# Altium footprint library adafruit.PCBLIB: 624 footprints (part 29 of 39)
Each footprint in its own frame and in the unit in brackets; x right, y up, seen from the top. Pads: shape width x height; smd on the part's side, far side on the other; paste and mask are expansions set on the pad; w line width, h text height; cw(c..) or ccw(c..) is an arc to the next point about the centre after c.
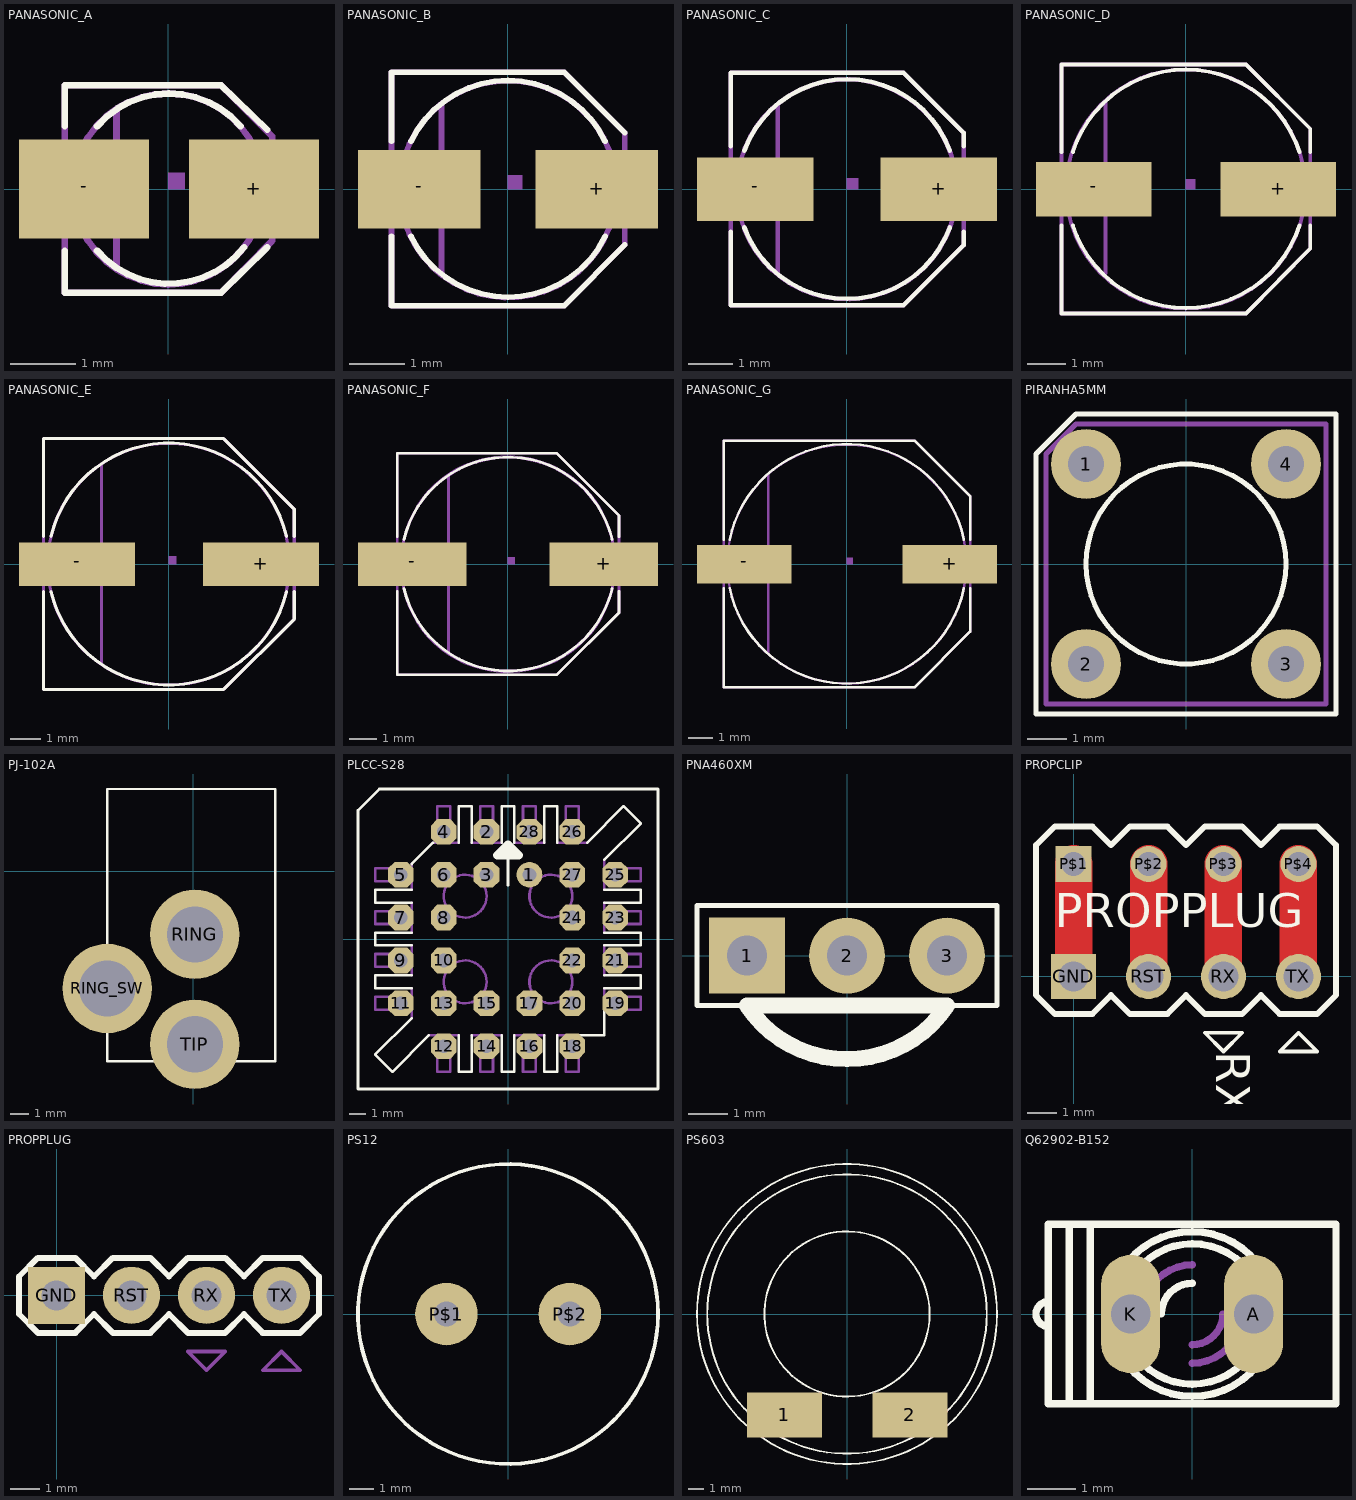
[diagram p28: the footprints below, top view; thin cyan lines are the x and y axes]

## PANASONIC_A [mil]
pads (2):
  rect 79x60 smd: +(52,0) -(-51.18,0)
Top Overlay:
  lines w4: -62.99,-37.4 -62.99,-62.99 32,-62.99 60,-35.43 ; -62.99,38 -62.99,63 32,63 60,36 ; -43.31,-37.4 ccw(c0.54,0.3) 46,-35.43 ; -43.31,38 cw(c0.35,0.3) 44,38
Mechanical 16:
  circle w4: c0,0 r58
  rectangle: -70.87,-11.81 -57.09,12
  rectangle: 58,-11.81 71,12
  region: 0,0 10,0 10,10 0,10
  lines w4: -31.5,-47.24 -31.5,48 ; -62.99,-62.99 32,-62.99 63,-31.5 63,32 32,63 -62.99,63 -62.99,-62.99

## PANASONIC_B [mil]
pads (2):
  rect 87x56 smd: +(63,0) -(-62.99,0)
Top Overlay:
  lines w4: -82.68,-33.46 -82.68,-82.68 40,-82.68 83,-39.37 ; -82.68,34 -82.68,83 40,83 83,40 ; -68.9,-33.46 ccw(c0.05,0.02) 69,-33.46 ; -68.9,34 cw(c0.05,0.51) 69,34
Mechanical 16:
  circle w4: c0,0 r77
  rectangle: -90.55,-13.78 -72.83,14
  rectangle: 75,-13.78 91,14
  region: 0,0 10,0 10,10 0,10
  lines w4: -47.24,-59.06 -47.24,60 ; -82.68,-82.68 40,-82.68 83,-39.37 83,40 40,83 -82.68,83 -82.68,-82.68

## PANASONIC_C [mil]
pads (2):
  rect 103x56 smd: +(81,0) -(-80.71,0)
Top Overlay:
  lines w4: -102.36,-37.4 -102.36,-102.36 50,-102.36 103,-49.21 103,-37.4 ; -102.36,38 -102.36,103 50,103 103,50 103,38 ; -90.55,-33.46 ccw(c0.22,0.08) 91,-33.46 ; -90.55,34 cw(c0.22,0.45) 91,34
Mechanical 16:
  circle w4: c0,0 r97
  rectangle: -116.14,-13.78 -94.49,14
  rectangle: 95,-13.78 117,14
  region: 0,0 10,0 10,10 0,10
  lines w4: -61.02,-72.83 -61.02,73 ; -102.36,-102.36 50,-102.36 103,-49.21 103,50 50,103 -102.36,103 -102.36,-102.36

## PANASONIC_D [mil]
pads (2):
  rect 119x56 smd: +(95,0) -(-94.49,0)
Top Overlay:
  lines w4: -127.95,-37.4 -127.95,-127.95 62,-127.95 128,-61.02 128,-37.4 ; -127.95,38 -127.95,128 62,128 128,62 128,38 ; -116.14,-37.4 ccw(c0.43,0.14) 117,-37.4 ; -116.14,38 cw(c0.43,0.46) 117,38
Mechanical 16:
  circle w4: c0,0 r123
  rectangle: -143.7,-13.78 -120.08,14
  rectangle: 121,-13.78 144,14
  region: 0,0 10,0 10,10 0,10
  lines w4: -82.68,-86.61 -82.68,89 ; -127.95,-127.95 62,-127.95 128,-61.02 128,62 62,128 -127.95,128 -127.95,-127.95

## PANASONIC_E [mil]
pads (2):
  rect 150x56 smd: +(119,0) -(-118.11,0)
Top Overlay:
  lines w4: -161.42,-35.43 -161.42,-161.42 71,-161.42 162,-70.87 162,-35.43 ; -161.42,36 -161.42,162 71,162 162,71 162,36 ; -151.57,-35.43 ccw(c0.21,0.05) 152,-35.43 ; -151.57,36 cw(c0.21,0.52) 152,36
Mechanical 16:
  circle w4: c0,0 r156
  rectangle: -177.17,-13.78 -149.61,14
  rectangle: 150,-13.78 178,14
  region: 0,0 10,0 10,10 0,10
  lines w4: -86.61,-127.95 -86.61,128 ; -161.42,-161.42 71,-161.42 162,-70.87 162,71 71,162 -161.42,162 -161.42,-161.42

## PANASONIC_F [mil]
pads (2):
  rect 158x63 smd: +(140,0) -(-139.76,0)
Top Overlay:
  lines w4: -161.42,-39.37 -161.42,-161.42 71,-161.42 162,-70.87 162,-39.37 ; -161.42,40 -161.42,162 71,162 162,71 162,40 ; -151.57,-35.43 ccw(c0.21,0.05) 152,-35.43 ; -151.57,36 cw(c0.21,0.52) 152,36
Mechanical 16:
  circle w1: c0,0 r158
  circle w4: c0,0 r156
  rectangle: -190.94,-17.72 -153.54,18
  rectangle: 154,-17.72 191,18
  region: 0,0 10,0 10,10 0,10
  lines w4: -86.61,-127.95 -86.61,128 ; -161.42,-161.42 71,-161.42 162,-70.87 162,71 71,162 -161.42,162 -161.42,-161.42

## PANASONIC_G [mil]
pads (2):
  rect 154x63 smd: +(168,0) -(-167.32,0)
Top Overlay:
  lines w4: -200.79,-39.37 -200.79,-200.79 111,-200.79 201,-110.24 201,-39.37 ; -200.79,40 -200.79,201 111,201 201,111 201,40 ; -190.94,-39.37 ccw(c0.03,0.01) 191,-39.37 ; -190.94,40 cw(c0.03,0.62) 191,40
Mechanical 16:
  circle w4: c0,0 r195
  rectangle: -230.31,-17.72 -192.91,18
  rectangle: 193,-17.72 231,18
  region: 0,0 10,0 10,10 0,10
  lines w4: -127.95,-143.7 -127.95,146 ; -200.79,-200.79 111,-200.79 201,-110.24 201,111 111,201 -200.79,201 -200.79,-200.79

## PIRANHA5MM [mil]
pads (4):
  round 70 hole 36: 1(-100,100) 2(-100,-100) 3(100,-100) 4(100,100)
Top Overlay:
  circle w5: c0,0 r100
  lines w5: -150,-150 150,-150 150,150 -110,150 -150,110 -150,-150
Bottom Overlay:
  circle w5: c0,0 r71
  lines w5: -150,-150 100,-150 150,-100 150,150 -150,150 -150,-150
Mechanical 4:
  lines w5: -140,-140 140,-140 140,140 -110,140 -140,110 -140,-140

## PJ-102A [mil]
pads (3):
  round 189 hole 119: RING(4,-133.46) RING_SW(-181.1,-247.64) TIP(4,-365.75)
Top Overlay:
  lines w5: -181.1,-401.57 174,-401.57 174,174 -181.1,174 -181.1,-401.57

## PLCC-S28 [mil]
pads (28):
  round 60 hole 32: 1(50,150)
  oct 60x60 hole 32: 2(-50,250) 3(-50,150) 4(-150,250) 5(-250,150) 6(-150,150) 7(-250,50) 8(-150,50) 9(-250,-50) 10(-150,-50) 11(-250,-150) 12(-150,-250) 13(-150,-150) 14(-50,-250) 15(-50,-150) 16(50,-250) 17(50,-150) 18(150,-250) 19(250,-150) 20(150,-150) 21(250,-50) 22(150,-50) 23(250,50) 24(150,50) 25(250,150) 26(150,250) 27(150,150) 28(50,250)
Top Overlay:
  lines w6: -225,-185 -310,-270 -270,-310 -185,-225 ; -225,-115 -310,-115 -310,-85 -225,-85 ; -225,-15 -310,-15 -310,15 -225,15 ; -225,85 -310,85 -310,115 -225,115 ; -225,175 -175,225 ; -115,-225 -115,-310 -85,-310 -85,-225 ; -115,225 -115,310 -85,310 -85,225 ; -15,-225 -15,-310 15,-310 15,-225 ; -15,225 -15,310 15,310 15,225 ; 0,125 0,220 ; 85,-225 85,-310 115,-310 115,-225 ; 85,225 85,310 115,310 115,225 ; 165,-225 225,-225 225,-165 ; 185,225 270,310 310,270 225,185 ; 225,-115 310,-115 310,-85 225,-85 ; 225,-15 310,-15 310,15 225,15 ; 225,85 310,85 310,115 225,115 ; -350,-350 -350,300 -300,350 350,350 350,-350 -350,-350
  lines w20: -25,195 25,195 0,220 -25,195
Mechanical 16:
  circle w6: c-100,100 r50
  circle w6: c100,100 r50
  circle w6: c-100,-100 r50
  circle w6: c100,-100 r50
  lines w6: -225,-185 -225,-165 -310,-165 -310,-135 -225,-135 -225,-115 ; -225,-85 -225,-65 -310,-65 -310,-35 -225,-35 -225,-15 ; -225,15 -225,35 -310,35 -310,65 -225,65 -225,85 ; -225,115 -225,135 -310,135 -310,165 -225,165 -225,175 ; -185,-225 -165,-225 -165,-310 -135,-310 -135,-225 -115,-225 ; -175,225 -165,225 -165,310 -135,310 -135,225 -115,225 ; -85,-225 -65,-225 -65,-310 -35,-310 -35,-225 -15,-225 ; -85,225 -65,225 -65,310 -35,310 -35,225 -15,225 ; 15,-225 35,-225 35,-310 65,-310 65,-225 85,-225 ; 15,225 35,225 35,310 65,310 65,225 85,225 ; 115,-225 135,-225 135,-310 165,-310 165,-225 ; 115,225 135,225 135,310 165,310 165,225 185,225 ; 225,-165 310,-165 310,-135 225,-135 225,-115 ; 225,-85 225,-65 310,-65 310,-35 225,-35 225,-15 ; 225,15 225,35 310,35 310,65 225,65 225,85 ; 225,115 225,135 310,135 310,165 225,165 225,185

## PNA460XM [mil]
pads (3):
  rect 76x76 hole 40: 1(-100,0)
  round 76 hole 40: 2(0,0) 3(100,0)
Top Overlay:
  lines w5: -100,-50 -150,-50 -150,50 150,50 150,-50 100,-50
  lines w16: -100,-50 100,-50 cw(c0,16.66) -100,-50
Mechanical 16:
  rectangle: 90,-10 110,10
  rectangle: -10,-10 10,10
  rectangle: -110,-10 -90,10

## PROPCLIP [mil]
pads (8):
  rect 60x60 hole 40: GND(0,0)
  rect 48x48 hole 32: P$1(0,150)
  round 48 hole 32: P$2(100,150) P$3(200,150) P$4(300,150)
  round 60 hole 40: RST(100,0) RX(200,0) TX(300,0)
Top Layer:
  lines w50: 0,0 0,150 ; 100,0 100,150 ; 200,0 200,150 ; 300,0 300,150
Top Overlay:
  lines w5: 175,-75 200,-100 225,-75 175,-75 ; 275,-100 325,-100 300,-75 275,-100
  lines w8: -50,-25 -50,175 -25,200 25,200 50,175 75,200 125,200 150,175 175,200 225,200 250,175 275,200 325,200 350,175 350,-25 325,-50 275,-50 250,-25 225,-50 175,-50 150,-25 125,-50 75,-50 50,-25 25,-50 -25,-50 -50,-25
  text "RX" at 175,-100 h77.5
  text "PROPPLUG" at -25,50 h77.5
Mechanical 2:
  text "VSS" at -25,-50 h77.5
  text "RST" at 75,-50 h77.5
  text "TX" at 275,-100 h77.5
Mechanical 16:
  rectangle: 290,-10 310,10
  rectangle: 190,-10 210,10
  rectangle: 90,-10 110,10
  rectangle: -10,-10 10,10

## PROPPLUG [mil]
pads (4):
  rect 76x76 hole 40: GND(0,0)
  round 76 hole 40: RST(100,0) RX(200,0) TX(300,0)
Top Overlay:
  lines w8: -50,-25 -50,25 -25,50 25,50 50,25 75,50 125,50 150,25 175,50 225,50 250,25 275,50 325,50 350,25 350,-25 325,-50 275,-50 250,-25 225,-50 175,-50 150,-25 125,-50 75,-50 50,-25 25,-50 -25,-50 -50,-25
Mechanical 2:
  lines w5: 175,-75 200,-100 225,-75 175,-75 ; 275,-100 325,-100 300,-75 275,-100
Mechanical 4:
  text "VSS" at -25,-50 h42.5
  text "RST" at 75,-50 h42.5
  text "RX" at 175,-100 h42.5
  text "TX" at 275,-100 h42.5
Mechanical 16:
  rectangle: 290,-10 310,10
  rectangle: 190,-10 210,10
  rectangle: 90,-10 110,10
  rectangle: -10,-10 10,10

## PS12 [mil]
pads (2):
  round 100 hole 40: P$1(-98.43,0) P$2(99,0)
Top Overlay:
  circle w6: c0,0 r240

## PS603 [mil]
pads (2):
  rect 197x119 smd: 1(-164.72,-265.28) 2(165,-265.28)
Top Overlay:
  circle w5: c0,0 r394
  circle w5: c0,0 r367
  circle w5: c0,0 r217

## Q62902-B152 [mil]
pads (2):
  oval 48x96 hole 32: A(50,0) K(-50,0)
Top Overlay:
  lines w6: -117,-10 cw(c-117,0) -117,10 ; -57.55,35 cw(c-0.61,0.35) 0,67 cw(c0.17,-0.16) 58,34 ; -57.37,-34.62 ccw(c0,0) 0,-67 ccw(c0.32,0.56) 58,-34.62 ; -45.22,35 cw(c-0.3,0.15) 0,57 cw(c0.66,-0.71) 46,35 ; -44.69,-35.38 ccw(c0,0) 0,-57 ccw(c0.24,0.51) 45,-35.61 ; -25,0 cw(c0,0) 0,25 ; -100,-73 -83,-73 ; -100,-73 -100,73 ; -100,-73 -117,-73 -117,73 -100,73 ; -100,73 -83,73 ; -83,-73 117,-73 117,-19 117,19 117,73 -83,73 ; -83,-73 -83,-19 -83,19 -83,73
Mechanical 16:
  lines w6: -57.09,-35.06 cw(c0,0) -67,0 cw(c1.03,0.3) -56.88,36 ; -45.1,35 ccw(c0.21,0.07) -57,0 ccw(c0,0) -44.51,-35.61 ; -40,0 cw(c0,0) 0,40 ; 0,-40 ccw(c0,0) 40,0 ; 0,-25 ccw(c0,0) 25,0 ; 45,-35.72 ccw(c0.29,-0.83) 57,0 ccw(c-1.2,0.6) 45,36 ; 57,-35.33 ccw(c0.04,-0.13) 67,0 ccw(c0.3,1.51) 58,35